# Altium footprint library speaker.PcbLib: 2 footprints
Each footprint in its own frame and in the unit in brackets; x right, y up, seen from the top. Pads: shape width x height; smd on the part's side, far side on the other; paste and mask are expansions set on the pad; w line width, h text height; cw(c..) or ccw(c..) is an arc to the next point about the centre after c.
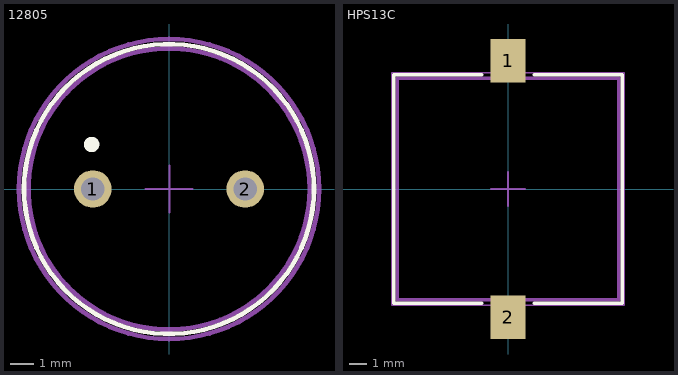
[diagram p0: the footprints below, top view; thin cyan lines are the x and y axes]

## 12805 [mm]
pads (2):
  round 1.6 / inner oval 4x2 / far side round 2 hole 1: 1(-3.25,0) 2(3.25,0)
Top Overlay:
  circle w0.2: c0,0 r6.185
  circle w0.45: c-3.3,1.9 r0.1
Mechanical 13:
  circle w0.2: c0,0 r6
Mechanical 15:
  circle w0.2: c0,0 r6.401
  lines w0.1: -1,0 1,0 ; 0.022,-1 0.022,1
3D body "User Library-buzzer12.step": height 7.5, standoff -2, extent -5.95,-5.993 6.05,5.993

## HPS13C [mm]
pads (2):
  rect 2x2.5 smd: 1(0,7.4) 2(0,-7.4)
Top Overlay:
  lines w0.2: -1.5,-6.6 -6.6,-6.6 -6.6,6.6 -1.5,6.6 ; 1.5,-6.6 6.6,-6.6 6.6,6.6 1.5,6.6
Mechanical 13:
  lines w0.2: -6.4,-6.4 6.4,-6.4 6.4,6.4 -6.4,6.4 -6.4,-6.4
Mechanical 15:
  lines w0.1: -1,0 1,0 ; 0,-1 0,1 ; -6.7,-6.7 6.7,-6.7 6.7,6.7 -6.7,6.7 -6.7,-6.7
3D body: height 2.5, standoff 0, extent -6.4,-6.4 6.4,6.4